# Altium schematic symbol library SPDT.SchLib: 1 symbol
Pins are listed as number, name and electrical type; pins without a type are passive.

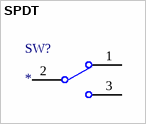
[diagram p0: symbol SPDT]

## SPDT
designator SW?
Mini Slide Switch
pins: 1, 2, 3